# Altium footprint library ST POWERSO-36.PCBLIB: 1 footprints
Each footprint in its own frame and in the unit in brackets; x right, y up, seen from the top. Pads: shape width x height; smd on the part's side, far side on the other; paste and mask are expansions set on the pad; w line width, h text height; cw(c..) or ccw(c..) is an arc to the next point about the centre after c.
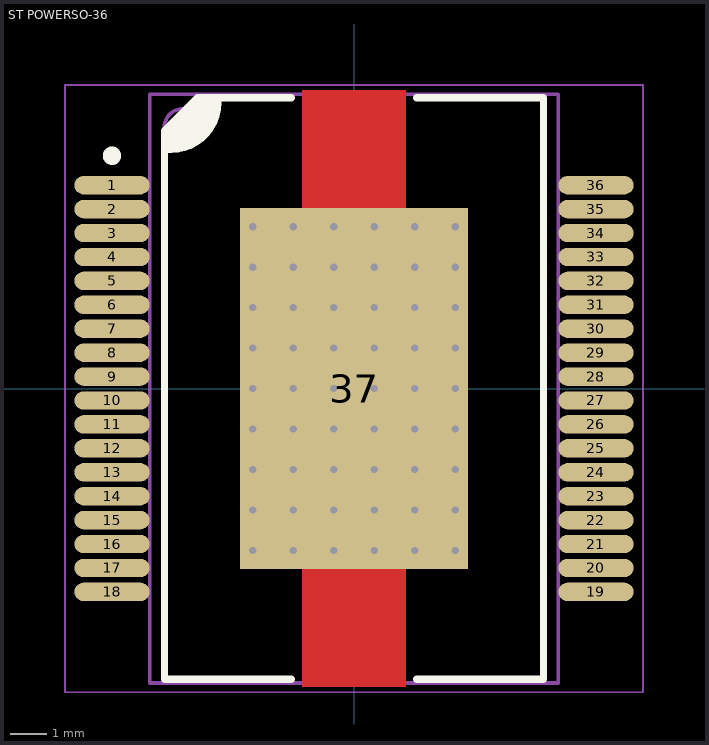
[diagram p0: the footprint, top view; thin cyan lines are the x and y axes]

## ST POWERSO-36 [mm] "POWERSO, 36-Leads, Body 15.90x11.00mm, Pitch 0.65mm, Thermal Pad 9.80x6.20mm, IPC Medium Density"
height 3.6
pads (37):
  oval 2.05x0.5 smd: 1(-6.575,5.525) 2(-6.575,4.875) 3(-6.575,4.225) 4(-6.575,3.575) 5(-6.575,2.925) 6(-6.575,2.275) 7(-6.575,1.625) 8(-6.575,0.975) 9(-6.575,0.325) 10(-6.575,-0.325) 11(-6.575,-0.975) 12(-6.575,-1.625) 13(-6.575,-2.275) 14(-6.575,-2.925) 15(-6.575,-3.575) 16(-6.575,-4.225) 17(-6.575,-4.875) 18(-6.575,-5.525) 19(6.575,-5.525) 20(6.575,-4.875) 21(6.575,-4.225) 22(6.575,-3.575) 23(6.575,-2.925) 24(6.575,-2.275) 25(6.575,-1.625) 26(6.575,-0.975) 27(6.575,-0.325) 28(6.575,0.325) 29(6.575,0.975) 30(6.575,1.625) 31(6.575,2.275) 32(6.575,2.925) 33(6.575,3.575) 34(6.575,4.225) 35(6.575,4.875) 36(6.575,5.525)
  rect 6.2x9.8 smd: 37(0,0)
via -2.75,4.4 diameter 0.5 hole 0.2
via -1.65,4.4 diameter 0.5 hole 0.2
via -0.55,4.4 diameter 0.5 hole 0.2
via 0.55,4.4 diameter 0.5 hole 0.2
via 1.65,4.4 diameter 0.5 hole 0.2
via 2.75,4.4 diameter 0.5 hole 0.2
via -2.75,3.3 diameter 0.5 hole 0.2
via -1.65,3.3 diameter 0.5 hole 0.2
via -0.55,3.3 diameter 0.5 hole 0.2
via 0.55,3.3 diameter 0.5 hole 0.2
via 1.65,3.3 diameter 0.5 hole 0.2
via 2.75,3.3 diameter 0.5 hole 0.2
via -2.75,2.2 diameter 0.5 hole 0.2
via -1.65,2.2 diameter 0.5 hole 0.2
via -0.55,2.2 diameter 0.5 hole 0.2
via 0.55,2.2 diameter 0.5 hole 0.2
via 1.65,2.2 diameter 0.5 hole 0.2
via 2.75,2.2 diameter 0.5 hole 0.2
via -2.75,1.1 diameter 0.5 hole 0.2
via -1.65,1.1 diameter 0.5 hole 0.2
via -0.55,1.1 diameter 0.5 hole 0.2
via 0.55,1.1 diameter 0.5 hole 0.2
via 1.65,1.1 diameter 0.5 hole 0.2
via 2.75,1.1 diameter 0.5 hole 0.2
via -2.75,0 diameter 0.5 hole 0.2
via -1.65,0 diameter 0.5 hole 0.2
via -0.55,0 diameter 0.5 hole 0.2
via 0.55,0 diameter 0.5 hole 0.2
via 1.65,0 diameter 0.5 hole 0.2
via 2.75,0 diameter 0.5 hole 0.2
via -2.75,-1.1 diameter 0.5 hole 0.2
via -1.65,-1.1 diameter 0.5 hole 0.2
via -0.55,-1.1 diameter 0.5 hole 0.2
via 0.55,-1.1 diameter 0.5 hole 0.2
via 1.65,-1.1 diameter 0.5 hole 0.2
via 2.75,-1.1 diameter 0.5 hole 0.2
via -2.75,-2.2 diameter 0.5 hole 0.2
via -1.65,-2.2 diameter 0.5 hole 0.2
via -0.55,-2.2 diameter 0.5 hole 0.2
via 0.55,-2.2 diameter 0.5 hole 0.2
via 1.65,-2.2 diameter 0.5 hole 0.2
via 2.75,-2.2 diameter 0.5 hole 0.2
via -2.75,-3.3 diameter 0.5 hole 0.2
via -1.65,-3.3 diameter 0.5 hole 0.2
via -0.55,-3.3 diameter 0.5 hole 0.2
via 0.55,-3.3 diameter 0.5 hole 0.2
via 1.65,-3.3 diameter 0.5 hole 0.2
via 2.75,-3.3 diameter 0.5 hole 0.2
via -2.75,-4.4 diameter 0.5 hole 0.2
via -1.65,-4.4 diameter 0.5 hole 0.2
via -0.55,-4.4 diameter 0.5 hole 0.2
via 0.55,-4.4 diameter 0.5 hole 0.2
via 1.65,-4.4 diameter 0.5 hole 0.2
via 2.75,-4.4 diameter 0.5 hole 0.2
Top Layer:
  region: -1.4,-8.1 -1.4,-4.7 1.4,-4.7 1.4,-8.1
  region: -1.4,8.1 -1.4,4.7 1.4,4.7 1.4,8.1
Top Overlay:
  circle w0.25: c-6.575,6.325 r0.125
  region: -5.15,7 -5.15,6.5 -5.1,6.5 -4.962,6.5 -4.692,6.554 -4.437,6.659 -4.208,6.813 -4.013,7.008 -3.859,7.237 -3.754,7.492 -3.7,7.762 -3.7,7.9 -4.25,7.9
  lines w0.2: -5.15,6.5 -4.97,6.5 ccw(c-4.97,7.77) -3.7,7.77 ; -1.7,-7.9 -5.15,-7.9 -5.15,7 -4.25,7.9 -1.7,7.9 ; 1.7,-7.9 5.15,-7.9 5.15,7.9 1.7,7.9
Top Paste:
  rectangle: -1.2,-8.1 -0.2,-5.2
  region: 1.2,-5.2 0.2,-5.2 0.2,-8.1 1.2,-8.1
  region: 1.2,8.1 0.2,8.1 0.2,5.2 1.2,5.2
  rectangle: -1.2,5.2 -0.2,8.1
Mechanical 13:
  circle w0.1: c-4.65,7.1 r0.5
  lines w0.1: -5.55,-8 -5.55,8 5.55,8 5.55,-8 -5.55,-8
Mechanical 15:
  lines w0.05: -7.85,-8.25 -7.85,8.25 7.85,8.25 7.85,-8.25 -7.85,-8.25
  lines w0.1: -0.5,0 0.5,0 ; 0,-0.5 0,0.5
3D body "POWERSO36.STEP": height 3.4, standoff 0, extent -7.119,-7.85 7.119,7.85